# EAGLE library part 691412120012B (library WR-TBL Spring Clamp)
WR-TBL Serie 412B - 3.50 mm Screwless 45° Entry - 2.1 mm 2 Wires KIND PROPERTIES Pitch 3.5 mm MATERIAL PROPERTIES Insulator Material PA66 Insulator Flammability Rating UL94 V-0 Contact Material Phosphor Bronze Contact Plating Tin GENERAL INFORMATION Operating Temperature -40 up to +105 °C Compliance RoHS ELECTRICAL PROPERTIES IR cULus 6 A IR VDE 2 A Working Voltage [cULus] 300 V (AC) Working Voltage [VDE] 250 V (AC) Withstanding Voltage [cULus] 1600 V (AC) Withstanding Voltage [VDE] 2500 V (AC) Contact Resistance [cULus] 20 mΩ Contact Resistance [VDE] 20 mΩ Mechanical Properties Wire Strip Length 7.5 up to 8.5 (mm) Wire Properties Solid Wire Section (AWG) 14 to 20 (AWG) Solid Wire Section (Metric) 2.08 to 0.518 (mm²) Stranded Wire Section (AWG) 14 to 20 (AWG) Stranded Wire Section (Metric) 2.08 to 0.518 (mm²) CERTIFICATION cULus Approval E315414 VDE Approval 40036145 Packaging Properties Packaging Box Details see: www.we-online.com/en/components/products/TBL_3_50_412B_SCREWLESS_45-DEGREE_ENTRY_2_1MM2_WIRES_6914121200XXB/ Updated by Ella Wu 2019-12-31 2019(C) Würth Elektronik
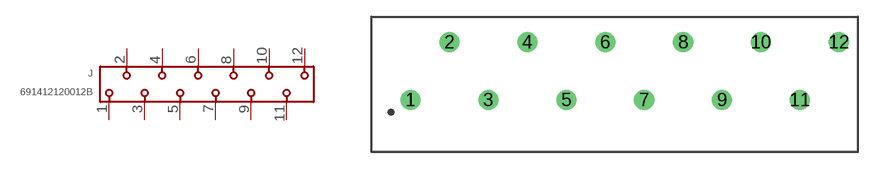
[diagram p125: symbol with the pads of 691412120012B; footprint 691412120012B]

Designator prefix J

## 691412120012B (APPLICATION: Screwless; DATASHEET: https://www.we-online.com/redexpert/spec/691412120012B?ae; IR-UL: 6A; MODULARITY: No; MOUNT: THT; PART-NUMBER: 691412120012B; PINS: 12; PITCH: 3.5mm; TYPE: 45°; VALUE: 691412120012B; WIRE: 14 to 20 (AWG) 2.08 to 0.518 (mm²); WORKING-VOLTAGE-UL: 300V (AC))  [691412120012B]
1  1  pas
2  2  pas
3  3  pas
4  4  pas
5  5  pas
6  6  pas
7  7  pas
8  8  pas
9  9  pas
10  10  pas
11  11  pas
12  12  pas

## Footprint 691412120012B (pad centres in mm)
WR-TBL Serie 412B - 3.50 mm Screwless 45° Entry - 2.1 mm 2 Wires Max Height = 12.8mm , Pitch 3.5mm , 12pins
drill 1.2: 1 -19.25,-2.6; 2 -15.75,2.6; 3 -12.25,-2.6; 4 -8.75,2.6; 5 -5.25,-2.6; 6 -1.75,2.6; 7 1.75,-2.6; 8 5.25,2.6; 9 8.75,-2.6; 10 12.25,2.6; 11 15.75,-2.6; 12 19.25,2.6